# EAGLE library part MPC4921 (library FansElectronics-IC-MCPXXXX)
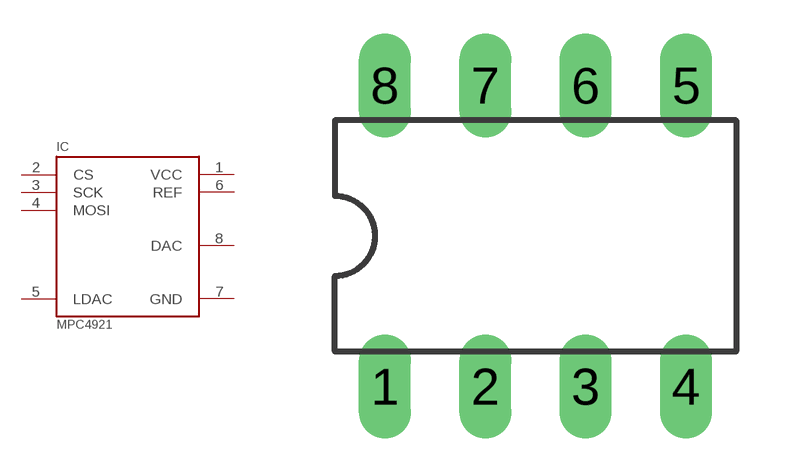
[diagram p0: symbol with the pads of DIL08; footprint DIL08]

Designator prefix IC

## MPC4921  [DIL08]
1  VCC  pwr
2  CS
3  SCK
4  MOSI
5  LDAC
6  REF
7  GND  pwr
8  DAC

## Footprint DIL08 (pad centres in mm)
drill 0.813 long: 1 -3.81,-3.81; 2 -1.27,-3.81; 3 1.27,-3.81; 4 3.81,-3.81; 5 3.81,3.81; 6 1.27,3.81; 7 -1.27,3.81; 8 -3.81,3.81